# EAGLE library part DIN41612-C64-FEMALE (library Traficon)
Created by CT on 11/03/09: Example Connectors Class 1: Harting 09 03 264 2825 Class 2: Harting 09 03 264 6825 Class 3: Harting 09 03 264 7825 Other suppliers: FCI, Tyco
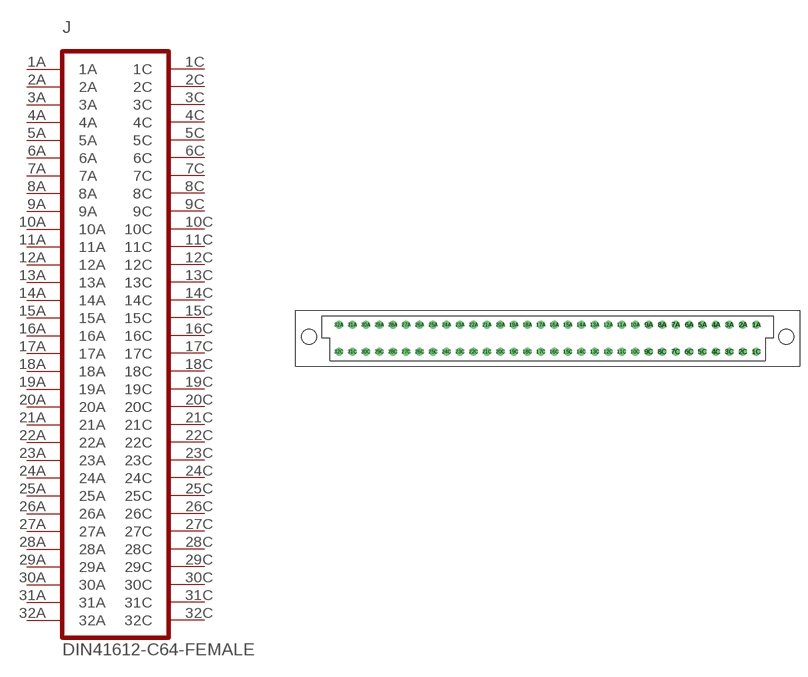
[diagram p234: symbol with the pads of DIN41612-C64-FEMALE; footprint DIN41612-C64-FEMALE]

Designator prefix J

## DIN41612-C64-FEMALE  [DIN41612-C64-FEMALE]
1A  1A
1C  1C
2A  2A
2C  2C
3A  3A
3C  3C
4A  4A
4C  4C
5A  5A
5C  5C
6A  6A
6C  6C
7A  7A
7C  7C
8A  8A
8C  8C
9A  9A
9C  9C
10A  10A
10C  10C
11A  11A
11C  11C
12A  12A
12C  12C
13A  13A
13C  13C
14A  14A
14C  14C
15A  15A
15C  15C
16A  16A
16C  16C
17A  17A
17C  17C
18A  18A
18C  18C
19A  19A
19C  19C
20A  20A
20C  20C
21A  21A
21C  21C
22A  22A
22C  22C
23A  23A
23C  23C
24A  24A
24C  24C
25A  25A
25C  25C
26A  26A
26C  26C
27A  27A
27C  27C
28A  28A
28C  28C
29A  29A
29C  29C
30A  30A
30C  30C
31A  31A
31C  31C
32A  32A
32C  32C

## Footprint DIN41612-C64-FEMALE (pad centres in mm)
drill 1 round: 1A 39.37,2.54; 1C 39.37,-2.54; 2A 36.83,2.54; 2C 36.83,-2.54; 3A 34.29,2.54; 3C 34.29,-2.54; 4A 31.75,2.54; 4C 31.75,-2.54; 5A 29.21,2.54; 5C 29.21,-2.54; 6A 26.67,2.54; 6C 26.67,-2.54; 7A 24.13,2.54; 7C 24.13,-2.54; 8A 21.59,2.54; 8C 21.59,-2.54; 9A 19.05,2.54; 9C 19.05,-2.54; 10A 16.51,2.54; 10C 16.51,-2.54; 11A 13.97,2.54; 11C 13.97,-2.54; 12A 11.43,2.54; 12C 11.43,-2.54; 13A 8.89,2.54; 13C 8.89,-2.54; 14A 6.35,2.54; 14C 6.35,-2.54; 15A 3.81,2.54; 15C 3.81,-2.54; 16A 1.27,2.54; 16C 1.27,-2.54; 17A -1.27,2.54; 17C -1.27,-2.54; 18A -3.81,2.54; 18C -3.81,-2.54; 19A -6.35,2.54; 19C -6.35,-2.54; 20A -8.89,2.54; 20C -8.89,-2.54; 21A -11.43,2.54; 21C -11.43,-2.54; 22A -13.97,2.54; 22C -13.97,-2.54; 23A -16.51,2.54; 23C -16.51,-2.54; 24A -19.05,2.54; 24C -19.05,-2.54; 25A -21.59,2.54; 25C -21.59,-2.54; 26A -24.13,2.54; 26C -24.13,-2.54; 27A -26.67,2.54; 27C -26.67,-2.54; 28A -29.21,2.54; 28C -29.21,-2.54; 29A -31.75,2.54; 29C -31.75,-2.54; 30A -34.29,2.54; 30C -34.29,-2.54; 31A -36.83,2.54; 31C -36.83,-2.54; 32A -39.37,2.54; 32C -39.37,-2.54
hole 2.8 at 45,0.3
hole 2.8 at -45,0.3